# Altium schematic symbol library SchematicLib.SchLib: 62 symbols (part 2 of 2)
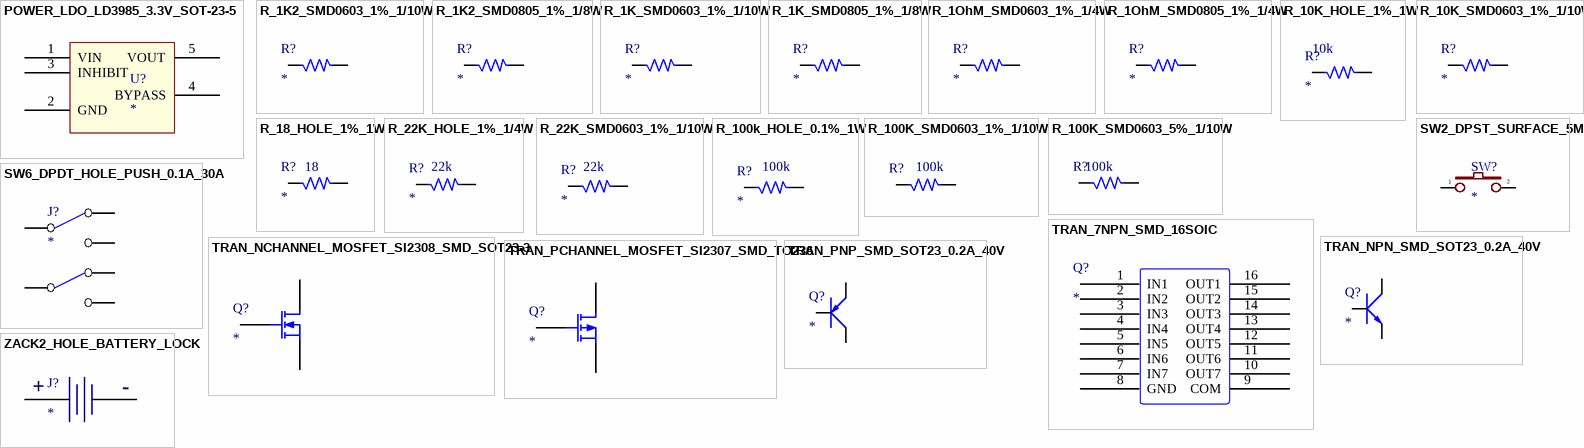
[diagram p2: symbols POWER_LDO_LD3985_3.3V_SOT-23-5 to ZACK2_HOLE_BATTERY_LOCK]

## R_10K_SMD0603_1%_1/10W
designator R?
RES SMD 10K OHM 1% 1/10W 0603; Manufacturer: Yageo; Manufacturer Part Number: RC0603FR-0710KL; Power (Watts): 0.1W, 1/10W; Temperature Coefficient: ±100ppm/°C; Capacitance: 0.10µF; Voltage - Rated: 50V; Supplier 1: Digi-Key; RoHS: RoHS Compliant; Category: Resistors; Stock 1: 10005000; Pricing 1: 5000=0.00167, 10000=0.00145, 25000=0.00128, 50000=0.00117, 125000=0.00115 (USD); Packaging: Tape & Reel (TR); Part Status: Active; Resistance (Ohms): 10k; Tolerance: ±1%; Composition: Thick Film; Features: Moisture Resistant; Operating Temperature: -55°C ~ 155°C; Package / Case: 0603 (1608 Metric); Supplier Device Package: 0603; Size / Dimension: 0.063" L x 0.031" W (1.60mm x 0.80mm); Height: 0.022" (0.55mm); Number of Terminations: 2; ComponentLink1URL: http://www.yageo.com/documents/recent/PYu-RC_Group_51_RoHS_L_04.pdf; ComponentLink1Description: http://www.yageo.com/documents/recent/PYu-RC_Group_51_RoHS_L_04.pdf; Supplier Part Number 1: 311-10.0KHRTR-ND; Mounting Type: Surface Mount, MLCC; Applications: General Purpose; Ratings: -; Height - Seated (Max): -; Thickness (Max): 0.037" (0.94mm); Lead Spacing: -; Lead Style: -; ComponentLink2URL: http://datasheets.avx.com/X7RDielectric.pdf; ComponentLink2Description: http://datasheets.avx.com/X7RDielectric.pdf
footprint RES_SMD0603 (Compoment SMD 60x30mil)
pins: 1, 2

## R_18_HOLE_1%_1W
designator R?  Resistance (Ohms): 18
RES 18 OHM 1W 1% AXIAL; Manufacturer: Vishay Dale; Manufacturer Part Number: ALSR0118R00FE12; Temperature Coefficient: ±30ppm/°C; Supplier 1: Digi-Key; RoHS: RoHS Compliant; Category: Resistors; Stock 1: 157; Pricing 1: 1=1.95, 10=1.733, 50=1.512, 100=1.323, 250=1.134, 500=0.945, 1000=0.819 (USD); Packaging: Bulk; Part Status: Active; Tolerance: ±1%; Power (Watts): 1W; Composition: Wirewound; Features: Moisture Resistant; Operating Temperature: -65°C ~ 250°C; Package / Case: Axial; Supplier Device Package: Axial; Size / Dimension: 0.110" Dia x 0.406" L (2.79mm x 10.31mm); Height: -; Number of Terminations: 2; Failure Rate: -; ComponentLink1URL: http://www.vishay.com/docs/31800/alsralvr.pdf; ComponentLink1Description: http://www.vishay.com/docs/31800/alsralvr.pdf; Supplier Part Number 1: ALSR1F-18-ND
footprint R_HOLE_0.25W_0.4
pins: 1, 2

## R_22K_HOLE_1%_1/4W
designator R?  Resistance (Ohms): 22k
RES 22K OHM 1/4W 1% AXIAL; Manufacturer: Stackpole Electronics Inc.; Manufacturer Part Number: RNMF14FTC22K0; Power (Watts): 0.25W, 1/4W; Temperature Coefficient: ±50ppm/°C; Supplier 1: Digi-Key; RoHS: RoHS Compliant; Category: Resistors; Stock 1: 45000; Pricing 1: 5000=0.00855, 10000=0.00743, 25000=0.00653, 50000=0.00599, 125000=0.00586 (USD); Packaging: Tape & Reel (TR); Part Status: Active; Tolerance: ±1%; Composition: Metal Film; Features: Flame Retardant Coating, Safety; Operating Temperature: -55°C ~ 155°C; Package / Case: Axial; Supplier Device Package: Axial; Size / Dimension: 0.070" Dia x 0.130" L (1.78mm x 3.30mm); Height: -; Number of Terminations: 2; Failure Rate: -; ComponentLink1URL: http://www.seielect.com/Catalog/SEI-RNF_RNMF.pdf; ComponentLink1Description: http://www.seielect.com/Catalog/SEI-RNF_RNMF.pdf; Supplier Part Number 1: S22KCATR-ND
footprint R_HOLE_0.25W_0.4
pins: 1, 2

## R_22K_SMD0603_1%_1/10W
designator R?  Resistance (Ohms): 22k
RES SMD 22K OHM 1% 1/10W 0603; Manufacturer: Yageo; Manufacturer Part Number: RC0603FR-0722KL; Power (Watts): 0.1W, 1/10W; Temperature Coefficient: ±100ppm/°C; Supplier 1: Digi-Key; RoHS: RoHS Compliant; Category: Resistors; Stock 1: 2610236; Pricing 1: 1=0.1, 10=0.014, 25=0.01, 100=0.0057, 250=0.00436, 500=0.00348, 1000=0.00257, 2500=0.00223 (USD); Packaging: Cut Tape (CT); Part Status: Active; Tolerance: ±1%; Composition: Thick Film; Features: Moisture Resistant; Operating Temperature: -55°C ~ 155°C; Package / Case: 0603 (1608 Metric); Supplier Device Package: 0603; Size / Dimension: 0.063" L x 0.031" W (1.60mm x 0.80mm); Height: 0.022" (0.55mm); Number of Terminations: 2; ComponentLink1URL: http://www.yageo.com/documents/recent/PYu-RC_Group_51_RoHS_L_04.pdf; ComponentLink1Description: http://www.yageo.com/documents/recent/PYu-RC_Group_51_RoHS_L_04.pdf; Supplier Part Number 1: 311-22.0KHRCT-ND
footprint RES_SMD0603 (Compoment SMD 60x30mil)
pins: 1, 2

## R_100k_HOLE_0.1%_1W
designator R?  Resistance (Ohms): 100k
RESISTOR METAL FILM 1W 100K OHM; Manufacturer: Vishay Dale; Manufacturer Part Number: CPF1100K00BHEE6; Tolerance: ±0.1%; Temperature Coefficient: ±50ppm/°C; Supplier 1: Digi-Key; RoHS: RoHS Compliant; Category: Resistors; Stock 1: 2000; Pricing 1: 1000=0.25781, 2000=0.24938, 5000=0.24375, 10000=0.23531, 25000=0.22969, 50000=0.22838 (USD); Packaging: Tape & Reel (TR); Part Status: Active; Power (Watts): 1W; Composition: Metal Film; Features: Flame Proof, Moisture Resistant, Safety; Operating Temperature: -65°C ~ 230°C; Package / Case: Axial; Supplier Device Package: Axial; Size / Dimension: 0.090" Dia x 0.240" L (2.29mm x 6.10mm); Height: -; Number of Terminations: 2; Failure Rate: -; ComponentLink1URL: http://www.vishay.com/docs/31021/cpf.pdf; ComponentLink1Description: http://www.vishay.com/docs/31021/cpf.pdf; Supplier Part Number 1: CPF100KATR-ND
footprint R_HOLE_0.25W_0.4
pins: 1, 2

## R_100K_SMD0603_1%_1/10W
designator R?  Resistance (Ohms): 100k  (hidden comment: *)
RES SMD 100K OHM 1% 1/10W 0603; Manufacturer: Yageo; Manufacturer Part Number: RC0603FR-07100KL; Power (Watts): 0.1W, 1/10W; Temperature Coefficient: ±100ppm/°C; Supplier 1: Digi-Key; RoHS: RoHS Compliant; Category: Resistors; Stock 1: 8585000; Pricing 1: 5000=0.00167, 10000=0.00145, 25000=0.00128, 50000=0.00117, 125000=0.00115 (USD); Packaging: Tape & Reel (TR); Part Status: Active; Tolerance: ±1%; Composition: Thick Film; Features: Moisture Resistant; Operating Temperature: -55°C ~ 155°C; Package / Case: 0603 (1608 Metric); Supplier Device Package: 0603; Size / Dimension: 0.063" L x 0.031" W (1.60mm x 0.80mm); Height: 0.022" (0.55mm); Number of Terminations: 2; ComponentLink1URL: http://www.yageo.com/documents/recent/PYu-RC_Group_51_RoHS_L_04.pdf; ComponentLink1Description: http://www.yageo.com/documents/recent/PYu-RC_Group_51_RoHS_L_04.pdf; Supplier Part Number 1: 311-100KHRTR-ND
footprint RES_SMD0603 (Compoment SMD 60x30mil)
pins: 1, 2

## R_100K_SMD0603_5%_1/10W
designator R?  Resistance (Ohms): 100k  (hidden comment: *)
RES SMD 100K OHM 5% 1/10W 0603; Manufacturer: Yageo; Manufacturer Part Number: RC0603JR-07100KL; Power (Watts): 0.1W, 1/10W; Temperature Coefficient: ±100ppm/°C; Supplier 1: Digi-Key; RoHS: RoHS Compliant; Category: Resistors; Stock 1: 2105000; Pricing 1: 5000=0.00129, 10000=0.00112, 25000=0.00099, 50000=0.0009, 125000=0.00089 (USD); Packaging: Tape & Reel (TR); Part Status: Active; Tolerance: ±5%; Composition: Thick Film; Features: Moisture Resistant; Operating Temperature: -55°C ~ 155°C; Package / Case: 0603 (1608 Metric); Supplier Device Package: 0603; Size / Dimension: 0.063" L x 0.031" W (1.60mm x 0.80mm); Height: 0.022" (0.55mm); Number of Terminations: 2; ComponentLink1URL: http://www.yageo.com/documents/recent/PYu-RC_Group_51_RoHS_L_04.pdf; ComponentLink1Description: http://www.yageo.com/documents/recent/PYu-RC_Group_51_RoHS_L_04.pdf; Supplier Part Number 1: 311-100KGRTR-ND
footprint RES_SMD0603 (Compoment SMD 60x30mil)
pins: 1, 2

## SW2_DPST_SURFACE_5MM
designator SW?
SWITCH TACTILE SPST-NO 0.05A 12V; Manufacturer: Wurth Electronics Inc; Manufacturer Part Number: 434121050836; Switch Function: Off-Mom; Contact Rating @ Voltage: 0.05A @ 12VDC; Actuator Type: Rectangular Button; Actuator Height off PCB, from Pins: 5.00mm; Actuator Orientation: Top Actuated; Outline: 6.00mm x 3.50mm; Illumination: Non-Illuminated; Operating Force: 360gf; Actuator Material: Liquid Crystal Polymer (LCP); Switch Travel: 0.25mm; Mechanical Life: 50,000 Cycles; Supplier 1: Digi-Key; RoHS: RoHS Compliant; Category: Switches; Stock 1: 0; Pricing 1: 1500=0.27 (USD); Packaging: Tape & Reel (TR); Part Status: Active; Circuit: SPST-NO; Mounting Type: Surface Mount; Termination Style: SMD (SMT) Tab; Illumination Voltage (Nominal): -; Illumination Type, Color: -; Ingress Protection: -; Features: -; Operating Temperature: -40°C ~ 85°C; ComponentLink1URL: http://katalog.we-online.de/em/datasheet/434121050836.pdf; ComponentLink1Description: http://katalog.we-online.de/em/datasheet/434121050836.pdf; Supplier Part Number 1: 732-7049-2-ND
footprint SW2-SMD (Switch SMD type)
pins: 1, 2

## SW6_DPDT_HOLE_PUSH_0.1A_30A
designator J?
SWITCH PUSH DPDT 0.1A 30V; Manufacturer: Apem Inc.; Manufacturer Part Number: MHPS2266; Switch Function: On-On; Current Rating: 100mA (DC); Actuator Type: Plunger for Cap; Electrical Life: 10,000 Cycles; Supplier 1: Digi-Key; RoHS: RoHS Compliant; Category: Switches; Stock 1: 2279; Pricing 1: 1=1.33, 10=1.243, 25=1.184, 50=1.1248, 100=1.0952, 250=1.0656, 500=1.0064, 1000=0.9472, 2500=0.8584 (USD); Packaging: Bulk; Part Status: Active; Type: Keyswitch; Circuit: DPDT; Voltage Rating - AC: -; Voltage Rating - DC: 30V; Color - Actuator/Cap: -; Illumination Type, Color: -; Illumination Voltage (Nominal): -; Mounting Type: Through Hole; Termination Style: PC Pin; Ingress Protection: -; Features: -; Panel Cutout Dimensions: -; Operating Temperature: -20°C ~ 65°C; Mechanical Life: -; ComponentLink1URL: http://www.apem.com/files/apem/brochures/MHPS_Q42014.pdf; ComponentLink1Description: http://www.apem.com/files/apem/brochures/MHPS_Q42014.pdf; Supplier Part Number 1: 679-3528-ND
footprint SW6_DPDT_POWER (PUSH POWER SOURCE)
pins: 1 NC, 2 COMMON, 3 NO, 4 NO, 5 COMMON, 6 NC

## TRAN_7NPN_SMD_16SOIC
designator Q?
TRANS 7NPN DARL 50V 0.5A 16SO; Manufacturer: Texas Instruments; Manufacturer Part Number: ULN2003ADR; Transistor Type: 7 NPN Darlington; Current - Collector (Ic) (Max): 500mA; Vce Saturation (Max) @ Ib, Ic: 1.6V @ 500µA, 350mA; Supplier 1: Digi-Key; RoHS: RoHS Compliant; Category: Discrete Semiconductor Products; Stock 1: 35000; Pricing 1: 2500=0.186, 5000=0.174, 12500=0.162, 25000=0.1536, 62500=0.15 (USD); Packaging: Tape & Reel (TR); Part Status: Active; Voltage - Collector Emitter Breakdown (Max): 50V; Current - Collector Cutoff (Max): -; DC Current Gain (hFE) (Min) @ Ic, Vce: -; Power - Max: -; Frequency - Transition: -; Mounting Type: Surface Mount; Package / Case: 16-SOIC (0.154", 3.90mm Width); Supplier Device Package: 16-SOIC; ComponentLink1URL: http://www.ti.com/lit/ds/symlink/uln2003a.pdf; ComponentLink1Description: http://www.ti.com/lit/ds/symlink/uln2003a.pdf; Supplier Part Number 1: 296-1368-2-ND
footprint TRAN7_ULN2003_16SOIC (Small Outline; 16 Leads; Body Width 5.6 mm; Pitch 1.27 mm)
pins: 1 IN1, 2 IN2, 3 IN3, 4 IN4, 5 IN5, 6 IN6, 7 IN7, 8 GND, 9 COM, 10 OUT7, 11 OUT6, 12 OUT5, 13 OUT4, 14 OUT3, 15 OUT2, 16 OUT1

## TRAN_NCHANNEL_MOSFET_SI2308_SMD_SOT23-3
designator Q?
MOSFET N-CH 60V 2.3A SOT23-3; Manufacturer: Vishay Siliconix; Manufacturer Part Number: SI2308BDS-T1-GE3; FET Type: MOSFET N-Channel, Metal Oxide; FET Feature: Standard; Current - Continuous Drain (Id) @ 25°C: 2.3A (Tc); Rds On (Max) @ Id, Vgs: 156 mOhm @ 1.9A, 10V; Vgs(th) (Max) @ Id: 3V @ 250µA; Gate Charge (Qg) @ Vgs: 6.8nC @ 10V; Input Capacitance (Ciss) @ Vds: 190pF @ 30V; Power - Max: 1.66W; Supplier 1: Digi-Key; RoHS: RoHS Compliant; Category: Discrete Semiconductor Products; Stock 1: 18000; Pricing 1: 3000=0.1488, 6000=0.1392, 15000=0.1296, 30000=0.12288, 75000=0.12, 150000=0.1152 (USD); Packaging: Tape & Reel (TR); Part Status: Active; Drain to Source Voltage (Vdss): 60V; Operating Temperature: -55°C ~ 150°C (TJ); Mounting Type: Surface Mount; Package / Case: TO-236-3, SC-59, SOT-23-3; Supplier Device Package: SOT-23-3 (TO-236); ComponentLink1URL: http://www.vishay.com/docs/69958/si2308bd.pdf; ComponentLink1Description: http://www.vishay.com/docs/69958/si2308bd.pdf; Supplier Part Number 1: SI2308BDS-T1-GE3TR-ND
footprint TRAN-NPN-SMD (SOT-23; 3 Leads; Body 3.0 x 2.5 mm, inc. leads (LxW max))
pins: 1 G, 2 S, 3 D

## TRAN_NPN_SMD_SOT23_0.2A_40V
designator Q?
TRANS NPN 40V 0.2A SOT23; Manufacturer: ON Semiconductor; Manufacturer Part Number: MMBT3904LT1G; Current - Collector (Ic) (Max): 200mA; Vce Saturation (Max) @ Ib, Ic: 300mV @ 5mA, 50mA; DC Current Gain (hFE) (Min) @ Ic, Vce: 100 @ 10mA, 1V; Power - Max: 300mW; Frequency - Transition: 300MHz; Supplier 1: Digi-Key; RoHS: RoHS Compliant; Category: Discrete Semiconductor Products; Stock 1: 540000; Pricing 1: 3000=0.01913, 6000=0.01725, 15000=0.015, 30000=0.0135, 75000=0.012, 150000=0.00998 (USD); Packaging: Tape & Reel (TR); Part Status: Active; Transistor Type: NPN; Voltage - Collector Emitter Breakdown (Max): 40V; Current - Collector Cutoff (Max): -; Mounting Type: Surface Mount; Package / Case: TO-236-3, SC-59, SOT-23-3; Supplier Device Package: SOT-23-3 (TO-236); ComponentLink1URL: http://www.onsemi.com/pub_link/Collateral/MMBT3904LT1-D.PDF; ComponentLink1Description: http://www.onsemi.com/pub_link/Collateral/MMBT3904LT1-D.PDF; Supplier Part Number 1: MMBT3904LT1GOSTR-ND
footprint TRAN-NPN-SMD (SOT-23; 3 Leads; Body 3.0 x 2.5 mm, inc. leads (LxW max))
pins: 1 B, 2 E, 3 C

## TRAN_PCHANNEL_MOSFET_SI2307_SMD_TO236
designator Q?
MOSFET P-CH 30V 3.5A SOT23-3; Manufacturer: Vishay Siliconix; Manufacturer Part Number: SI2307CDS-T1-GE3; FET Type: MOSFET P-Channel, Metal Oxide; FET Feature: Standard; Current - Continuous Drain (Id) @ 25°C: 3.5A (Tc); Rds On (Max) @ Id, Vgs: 88 mOhm @ 3.5A, 10V; Vgs(th) (Max) @ Id: 3V @ 250µA; Gate Charge (Qg) @ Vgs: 6.2nC @ 4.5V; Input Capacitance (Ciss) @ Vds: 340pF @ 15V; Power - Max: 1.8W; Supplier 1: Digi-Key; RoHS: RoHS Compliant; Category: Discrete Semiconductor Products; Stock 1: 12000; Pricing 1: 3000=0.13695, 6000=0.12865, 15000=0.12035, 30000=0.11039, 75000=0.10624, 150000=0.10209 (USD); Packaging: Tape & Reel (TR); Part Status: Active; Drain to Source Voltage (Vdss): 30V; Operating Temperature: -55°C ~ 150°C (TJ); Mounting Type: Surface Mount; Package / Case: TO-236-3, SC-59, SOT-23-3; Supplier Device Package: SOT-23-3 (TO-236); ComponentLink1URL: http://www.vishay.com/docs/68768/si2307cd.pdf; ComponentLink1Description: http://www.vishay.com/docs/68768/si2307cd.pdf; Supplier Part Number 1: SI2307CDS-T1-GE3TR-ND
footprint TRAN-PNP-SMD (SOT-23; 3 Leads; Body 3.0 x 2.5 mm, inc. leads (LxW max))
pins: 1 G, 2 S, 3 D

## TRAN_PNP_SMD_SOT23_0.2A_40V
designator Q?
TRANS PNP 40V 0.2A SOT23; Manufacturer: ON Semiconductor; Manufacturer Part Number: MMBT3906LT1G; Current - Collector (Ic) (Max): 200mA; Vce Saturation (Max) @ Ib, Ic: 400mV @ 5mA, 50mA; DC Current Gain (hFE) (Min) @ Ic, Vce: 100 @ 10mA, 1V; Power - Max: 300mW; Frequency - Transition: 250MHz; Supplier 1: Digi-Key; RoHS: RoHS Compliant; Category: Discrete Semiconductor Products; Stock 1: 163811; Pricing 1: 1=0.11, 10=0.097, 100=0.0531, 500=0.03262, 1000=0.02225 (USD); Packaging: Cut Tape (CT); Part Status: Active; Transistor Type: PNP; Voltage - Collector Emitter Breakdown (Max): 40V; Current - Collector Cutoff (Max): -; Mounting Type: Surface Mount; Package / Case: TO-236-3, SC-59, SOT-23-3; Supplier Device Package: SOT-23-3 (TO-236); ComponentLink1URL: http://www.onsemi.com/pub_link/Collateral/MMBT3906LT1-D.PDF; ComponentLink1Description: http://www.onsemi.com/pub_link/Collateral/MMBT3906LT1-D.PDF; Supplier Part Number 1: MMBT3906LT1GOSCT-ND
footprint TRAN-PNP-SMD (SOT-23; 3 Leads; Body 3.0 x 2.5 mm, inc. leads (LxW max))
pins: 1 E, 2 C, 3 B

## ZACK2_HOLE_BATTERY_LOCK
designator J?
CONN HEADER VERT 2POS .100 TIN; Manufacturer: TE Connectivity AMP Connectors; Manufacturer Part Number: 640456-2; Connector Type: Header, Unshrouded; Number of Positions: 2; Number of Positions Loaded: All; Pitch: 0.100" (2.54mm); Supplier 1: Digi-Key; RoHS: RoHS Compliant; Category: Connectors, Interconnects; Stock 1: 136186; Pricing 1: 1=0.12, 10=0.083, 100=0.069, 500=0.066, 1000=0.058, 2000=0.052, 5000=0.05, 10000=0.041 (USD); Packaging: Bulk; Part Status: Active; Contact Type: Male Pin; Number of Rows: 1; Row Spacing: -; Contact Mating Length: 0.295" (7.49mm); Mounting Type: Through Hole; Termination: Solder; Fastening Type: Friction Lock; Features: -; Contact Finish: Tin; Contact Finish Thickness: -; Color: Natural; ComponentLink1URL: http://www.te.com/commerce/DocumentDelivery/DDEController?Action=srchrtrv&DocNm=640456&DocType=Customer+Drawing&DocLang=English; ComponentLink1Description: http://www.te.com/commerce/DocumentDelivery/DDEController?Action=srchrtrv&DocNm=640456&DocType=Customer+Drawing&DocLang=English; Supplier Part Number 1: A1921-ND
footprint ZACK_BAT (HEADER, SINGLE, DISTANCE = 100mil)
pins: 1 +, 2 -